# Altium footprint library Pulser Driver.PcbLib: 49 footprints (part 4 of 4)
Each footprint in its own frame and in the unit in brackets; x right, y up, seen from the top. Pads: shape width x height; smd on the part's side, far side on the other; paste and mask are expansions set on the pad; w line width, h text height; cw(c..) or ccw(c..) is an arc to the next point about the centre after c.
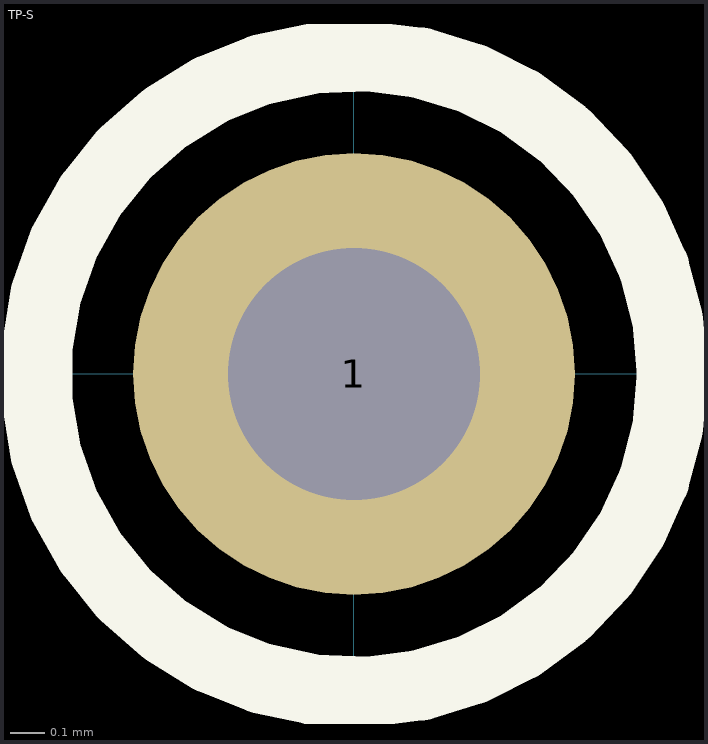
[diagram p3: the footprint, top view; thin cyan lines are the x and y axes]

## TP-S [mm]
pads (1):
  round 1.27 hole 0.725: 1(0,0)
Top Overlay:
  circle w0.203: c0,0 r0.914